# EAGLE library part LNK603-606/613-616 (library power_integrations)
The LinkSwitch-II dramatically simplifies low power CV/CC charger designs by eliminating an optocoupler and secondary control circuitry. The device introduces a revolutionary control technique to provide very tight output voltage and current regulation, compensating for transformer and internal parameter tolerances along with input voltage variations. The device incorporates a 700 V power MOSFET, a novel ON/OFF control state machine, a high voltage switched current source for self biasing, frequency jittering, cycle-by-cycle current limit and hysteretic thermal shutdown circuitry onto a monolithic IC.
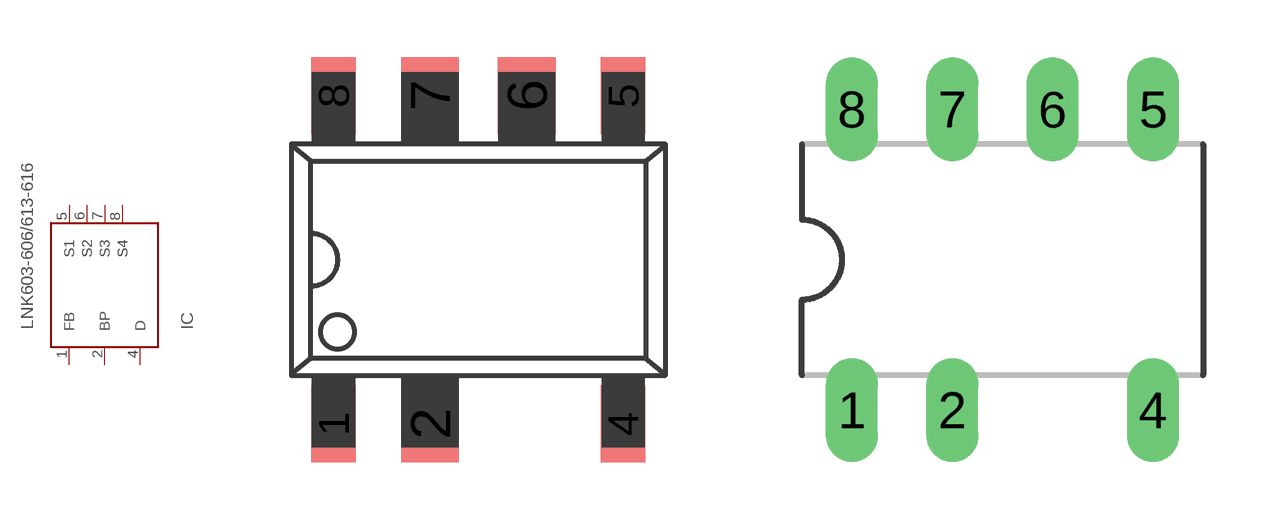
[diagram p20: symbol with the pads of DIP8C_SMD(G_PACKAGE); footprints DIP8C_SMD(G_PACKAGE), PDIP-8C(P-PACKAGE)]

Designator prefix IC

## LNK603-606/613-616  [DIP8C_SMD(G_PACKAGE)]
1  FB
2  BP
4  D
5  S1
6  S2
7  S3
8  S4

## LNK603-606/613-616PDIP-8C  [PDIP-8C(P-PACKAGE)]
Pads as for DIP8C_SMD(G_PACKAGE)

## LNK603-606/613-616SO8-C  [SO8-C(D_PACKAGE)]
Pads as for DIP8C_SMD(G_PACKAGE)

## Footprint DIP8C_SMD(G_PACKAGE) (pad centres in mm)
smd 1.168 x 2.032: 1 -3.81,-4.32; 4 3.81,-4.32; 5 3.81,4.32; 8 -3.81,4.32
smd 1.524 x 2.032: 2 -1.27,-4.32; 6 1.27,4.32; 7 -1.27,4.32

## Footprint PDIP-8C(P-PACKAGE) (pad centres in mm)
Dual In Line Package
drill 0.813 long: 1 -3.81,-3.81; 2 -1.27,-3.81; 4 3.81,-3.81; 5 3.81,3.81; 6 1.27,3.81; 7 -1.27,3.81; 8 -3.81,3.81

## Footprint SO8-C(D_PACKAGE) (pad centres in mm)
SMALL OUTLINE INTEGRATED CIRCUIT body 3.9 mm/JEDEC MS-012AA
smd 0.6 x 2.2: 1 -1.905,-2.6; 2 -0.635,-2.6; 4 1.905,-2.6; 5 1.905,2.6; 6 0.635,2.6; 7 -0.635,2.6; 8 -1.905,2.6